# EAGLE library part STM32_F3 (library P442)
STM32 F3 Discovery Board
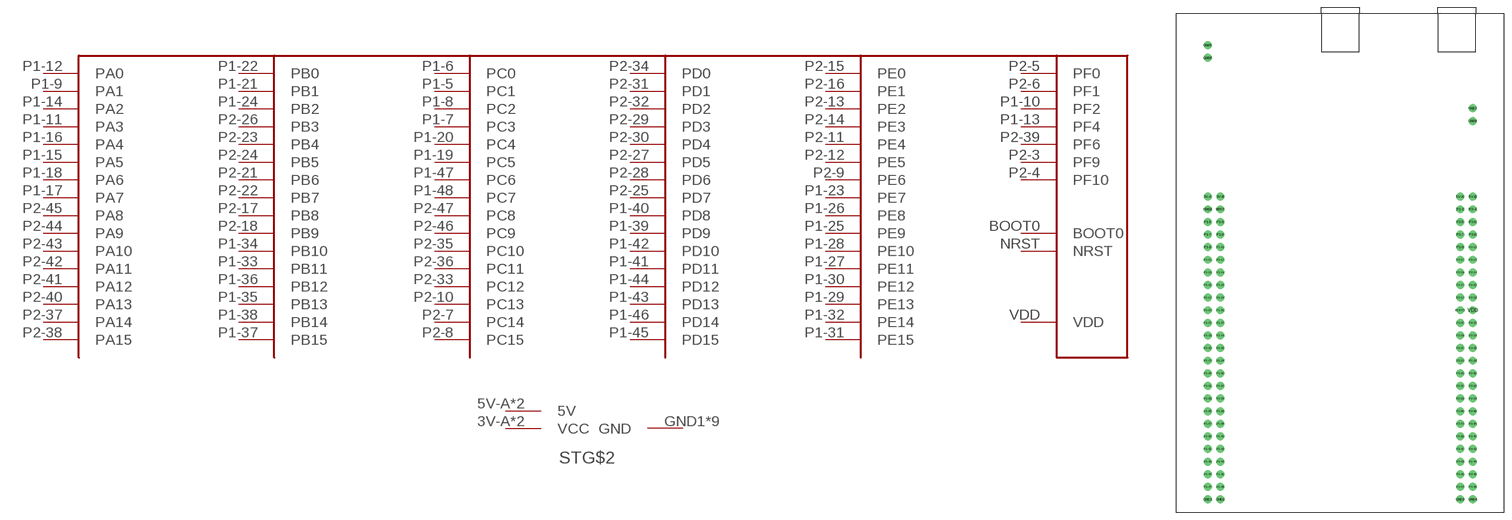
[diagram p5: symbol with the pads of STM32F3; footprint STM32F3]

Designator prefix ST; gates G$1=STM32F3-DISCOVERY-BD G$2=VCC_5V_GND

## STM32_F3  [STM32F3]
3V-A  G$2:VCC  pwr
3V-B  G$2:VCC  pwr
5V-A  G$2:5V  pwr
5V-B  G$2:5V  pwr
BOOT0  G$1:BOOT0
GND1  G$2:GND  pwr
GND2  G$2:GND  pwr
GND3  G$2:GND  pwr
GND4  G$2:GND  pwr
GND5  G$2:GND  pwr
GND6  G$2:GND  pwr
GND7  G$2:GND  pwr
GND8  G$2:GND  pwr
GND9  G$2:GND  pwr
NRST  G$1:NRST
P1-5  G$1:PC1
P1-6  G$1:PC0
P1-7  G$1:PC3
P1-8  G$1:PC2
P1-9  G$1:PA1
P1-10  G$1:PF2
P1-11  G$1:PA3
P1-12  G$1:PA0
P1-13  G$1:PF4
P1-14  G$1:PA2
P1-15  G$1:PA5
P1-16  G$1:PA4
P1-17  G$1:PA7
P1-18  G$1:PA6
P1-19  G$1:PC5
P1-20  G$1:PC4
P1-21  G$1:PB1
P1-22  G$1:PB0
P1-23  G$1:PE7
P1-24  G$1:PB2
P1-25  G$1:PE9
P1-26  G$1:PE8
P1-27  G$1:PE11
P1-28  G$1:PE10
P1-29  G$1:PE13
P1-30  G$1:PE12
P1-31  G$1:PE15
P1-32  G$1:PE14
P1-33  G$1:PB11
P1-34  G$1:PB10
P1-35  G$1:PB13
P1-36  G$1:PB12
P1-37  G$1:PB15
P1-38  G$1:PB14
P1-39  G$1:PD9
P1-40  G$1:PD8
P1-41  G$1:PD11
P1-42  G$1:PD10
P1-43  G$1:PD13
P1-44  G$1:PD12
P1-45  G$1:PD15
P1-46  G$1:PD14
P1-47  G$1:PC6
P1-48  G$1:PC7
P2-3  G$1:PF9
P2-4  G$1:PF10
P2-5  G$1:PF0
P2-6  G$1:PF1
P2-7  G$1:PC14
P2-8  G$1:PC15
P2-9  G$1:PE6
P2-10  G$1:PC13
P2-11  G$1:PE4
P2-12  G$1:PE5
P2-13  G$1:PE2
P2-14  G$1:PE3
P2-15  G$1:PE0
P2-16  G$1:PE1
P2-17  G$1:PB8
P2-18  G$1:PB9
P2-21  G$1:PB6
P2-22  G$1:PB7
P2-23  G$1:PB4
P2-24  G$1:PB5
P2-25  G$1:PD7
P2-26  G$1:PB3
P2-27  G$1:PD5
P2-28  G$1:PD6
P2-29  G$1:PD3
P2-30  G$1:PD4
P2-31  G$1:PD1
P2-32  G$1:PD2
P2-33  G$1:PC12
P2-34  G$1:PD0
P2-35  G$1:PC10
P2-36  G$1:PC11
P2-37  G$1:PA14
P2-38  G$1:PA15
P2-39  G$1:PF6
P2-40  G$1:PA13
P2-41  G$1:PA12
P2-42  G$1:PA11
P2-43  G$1:PA10
P2-44  G$1:PA9
P2-45  G$1:PA8
P2-46  G$1:PC9
P2-47  G$1:PC8
VDD  G$1:VDD  pwr

## Footprint STM32F3 (pad centres in mm)
drill 1.067: 3V-A -26.67,60.96; 3V-B -24.13,60.96; 5V-A 24.13,60.96; 5V-B 26.67,60.96; BOOT0 24.13,38.1; GND1 -26.67,0; GND2 -24.13,0; GND3 24.13,0; GND4 26.67,0; GND5 -26.67,91.44; GND6 -26.67,88.9; GND7 26.67,78.74; GND8 26.67,76.2; GND9 -26.67,58.42; NRST -24.13,58.42; P1-5 -26.67,55.88; P1-6 -24.13,55.88; P1-7 -26.67,53.34; P1-8 -24.13,53.34; P1-9 -26.67,50.8; P1-10 -24.13,50.8; P1-11 -26.67,48.26; P1-12 -24.13,48.26; P1-13 -26.67,45.72; P1-14 -24.13,45.72; P1-15 -26.67,43.18; P1-16 -24.13,43.18; P1-17 -26.67,40.64; P1-18 -24.13,40.64; P1-19 -26.67,38.1; P1-20 -24.13,38.1; P1-21 -26.67,35.56; P1-22 -24.13,35.56; P1-23 -26.67,33.02; P1-24 -24.13,33.02; P1-25 -26.67,30.48; P1-26 -24.13,30.48; P1-27 -26.67,27.94; P1-28 -24.13,27.94; P1-29 -26.67,25.4; P1-30 -24.13,25.4; P1-31 -26.67,22.86; P1-32 -24.13,22.86; P1-33 -26.67,20.32; P1-34 -24.13,20.32; P1-35 -26.67,17.78; P1-36 -24.13,17.78; P1-37 -26.67,15.24; P1-38 -24.13,15.24; P1-39 -26.67,12.7; P1-40 -24.13,12.7; P1-41 -26.67,10.16; P1-42 -24.13,10.16; P1-43 -26.67,7.62; P1-44 -24.13,7.62; P1-45 -26.67,5.08; P1-46 -24.13,5.08; P1-47 -26.67,2.54; P1-48 -24.13,2.54; P2-3 24.13,58.42; P2-4 26.67,58.42; P2-5 24.13,55.88; P2-6 26.67,55.88; P2-7 24.13,53.34; P2-8 26.67,53.34; P2-9 24.13,50.8; P2-10 26.67,50.8; P2-11 24.13,48.26; P2-12 26.67,48.26; P2-13 24.13,45.72; P2-14 26.67,45.72; P2-15 24.13,43.18; P2-16 26.67,43.18; P2-17 24.13,40.64; P2-18 26.67,40.64; P2-21 24.13,35.56; P2-22 26.67,35.56; P2-23 24.13,33.02; P2-24 26.67,33.02; P2-25 24.13,30.48; P2-26 26.67,30.48; P2-27 24.13,27.94; P2-28 26.67,27.94; P2-29 24.13,25.4; P2-30 26.67,25.4; P2-31 24.13,22.86; P2-32 26.67,22.86; P2-33 24.13,20.32; P2-34 26.67,20.32; P2-35 24.13,17.78; P2-36 26.67,17.78; P2-37 24.13,15.24; P2-38 26.67,15.24; P2-39 24.13,12.7; P2-40 26.67,12.7; P2-41 24.13,10.16; P2-42 26.67,10.16; P2-43 24.13,7.62; P2-44 26.67,7.62; P2-45 24.13,5.08; P2-46 26.67,5.08; P2-47 24.13,2.54; P2-48 26.67,2.54; VDD 26.67,38.1